# EAGLE library part 4LIN-VCA-3364 (library XM8)
4 channel linear VCA, based on the AS3364
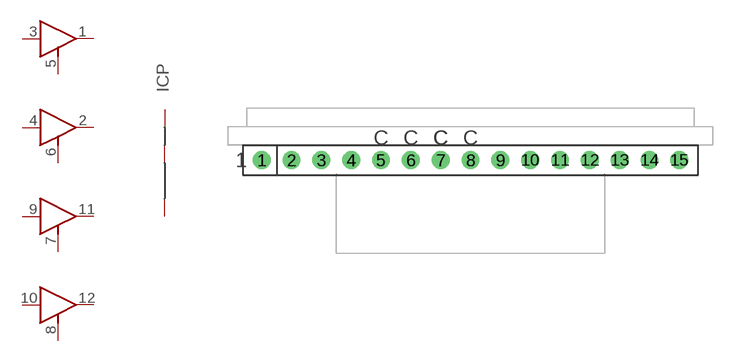
[diagram p18: symbol with the pads of XM8-QUAD_AMP-3364-V; footprint XM8-QUAD_AMP-3364-V]

Designator prefix IC; gates G$1=XM8-AMP G$2=XM8-AMP G$3=XM8-AMP G$4=XM8-AMP P=XM8-PWR

## 4LIN-VCA-3364  [XM8-QUAD_AMP-3364-V]
1  G$1:O
2  G$2:O
3  G$1:I
4  G$2:I
5  G$1:C
6  G$2:C
7  G$3:C
8  G$4:C
9  G$3:I
10  G$4:I
11  G$3:O
12  G$4:O
13  P:-V  pwr
14  P:+V  pwr
15  P:AGND  pwr

## Footprint XM8-QUAD_AMP-3364-V (pad centres in mm)
Xonik quad linear VCA (AS3364), vertical mount
drill 1.016: 1 -17.78,0; 2 -15.24,0; 3 -12.7,0; 4 -10.16,0; 5 -7.62,0; 6 -5.08,0; 7 -2.54,0; 8 0,0; 9 2.54,0; 10 5.08,0; 11 7.62,0; 12 10.16,0; 13 12.7,0; 14 15.24,0; 15 17.78,0